# Altium schematic symbol library lib_gpa.SchLib: 1 symbol
Pins are listed as number, name and electrical type; pins without a type are passive.

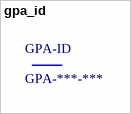
[diagram p0: symbol gpa_id]

## gpa_id
designator GPA-ID, comment GPA-***-***  (no BOM)
GPA ID tag
footprint gpa_id